# EAGLE library part 693061010911 (library MicroUSB)
WR-CRD SD CARD CONNECTOR PUSH & PUSH WITH CARD DETECTION 9 PINS
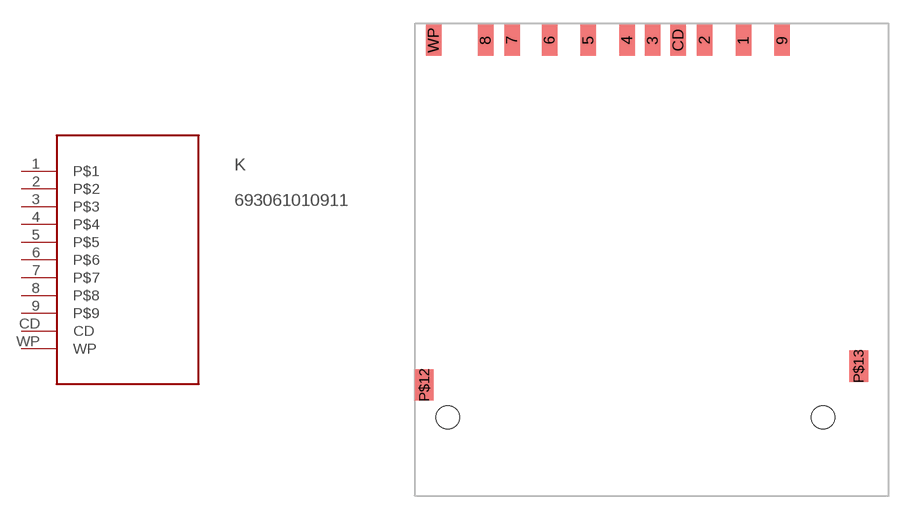
[diagram p36: symbol with the pads of 693061010911; footprint 693061010911]

Designator prefix K

## 693061010911  [693061010911]
1  P$1
2  P$2
3  P$3
4  P$4
5  P$5
6  P$6
7  P$7
8  P$8
9  P$9
CD  CD
WP  WP

## Footprint 693061010911 (pad centres in mm)
WR-CRD SD CARD CONNECTOR PUSH & PUSH WITH CARD DETECTION 9 PINS
smd 1 x 2: 1 19.97,0; 2 17.47,0; 3 14.12,0; 4 12.47,0; 5 9.97,0; 6 7.47,0; 7 5.05,0; 8 3.35,0; 9 22.47,0; CD 15.77,0; WP 0,0
smd 1.2 x 2: P$12 -0.6,-22.21; P$13 27.4,-21.01
hole 1.5 at 0.9,-24.31
hole 1.5 at 25.1,-24.31